# Altium schematic symbol library SPI_Flash_S25FL256SAGNFI00.SchLib: 1 symbol
Pins are listed as number, name and electrical type; pins without a type are passive.

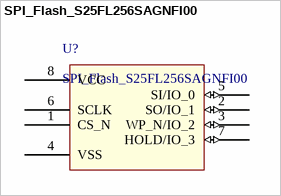
[diagram p0: symbol SPI_Flash_S25FL256SAGNFI00]

## SPI_Flash_S25FL256SAGNFI00
designator U?
pins: 1 CS_N, 2 SO/IO_1 (io), 3 WP_N/IO_2 (io), 4 VSS (power), 5 SI/IO_0 (io), 6 SCLK, 7 HOLD/IO_3 (io), 8 VCC (power)